# Altium schematic symbol library DRV8830.Schlib: 1 symbol
Pins are listed as number, name and electrical type; pins without a type are passive.

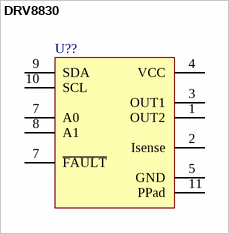
[diagram p0: symbol DRV8830]

## DRV8830
designator U??
pins: 1 OUT2, 2 Isense, 3 OUT1, 4 VCC, 5 GND, 7 A0, 7 ~{FAULT}, 8 A1, 9 SDA, 10 SCL, 11 PPad